# EAGLE library part 691221120006 (library Wuerth_Elektronik_eiCan_Terminal_Blocks_v2.0)
WR-TBL Serie 2211 - 3.5mm 45° Entry Modular with Rising Cage Clamp - 1.3 mm2 Wires, 6 Pins
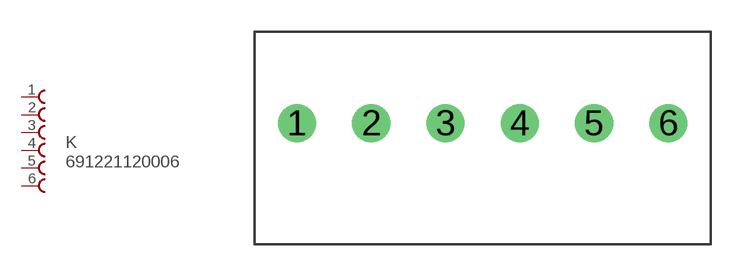
[diagram p6: symbol with the pads of 691221120006; footprint 691221120006]

Designator prefix K

## 691221120006  [691221120006]
1  1  pas
2  2  pas
3  3  pas
4  4  pas
5  5  pas
6  6  pas

## Footprint 691221120006 (pad centres in mm)
WR-TBL Serie 2211 - 3.5mm 45° Entry Modular with Rising Cage Clamp - 1.3 mm2 Wires, 6 Pins
drill 1.2 round: 1 -3.5,0; 2 0,0; 3 3.5,0; 4 7,0; 5 10.5,0; 6 14,0